# Altium footprint library abracon.PcbLib: 5 footprints
Each footprint in its own frame and in the unit in brackets; x right, y up, seen from the top. Pads: shape width x height; smd on the part's side, far side on the other; paste and mask are expansions set on the pad; w line width, h text height; cw(c..) or ccw(c..) is an arc to the next point about the centre after c.
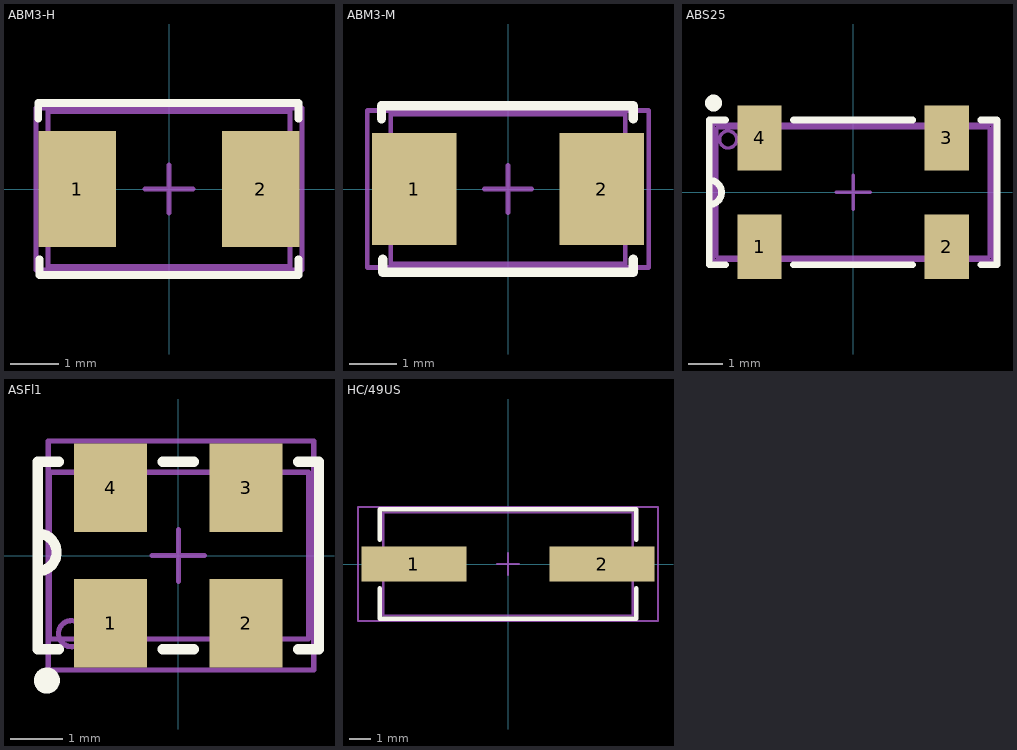
[diagram p0: the footprints below, top view; thin cyan lines are the x and y axes]

## ABM3-H [mm] "Miniature Ceramic SMD Crystal 5.0 X 3.2 X 1.3"
height 1.3
pads (2):
  rect 1.6x2.4 smd: 1(-1.9,0) 2(1.9,0)
Top Overlay:
  lines w0.16: -2.7,1.45 -2.7,1.775 2.675,1.775 2.675,1.45 ; -2.675,-1.45 -2.675,-1.775 2.675,-1.775 2.675,-1.45
Mechanical 13:
  lines w0.1: -0.5,0 0.5,0 ; 0,-0.5 0,0.5 ; -2.5,-1.6 -2.5,1.6 2.5,1.6 2.5,-1.6 -2.5,-1.6
Mechanical 15:
  lines w0.1: -2.75,-1.675 -2.75,1.675 2.75,1.675 2.75,-1.675 -2.75,-1.675
  text ".Designator" at -2.5,-0.1 h0.8
3D body: height 1.3, standoff 0, extent -2.5,-1.6 2.5,1.6

## ABM3-M [mm] "Miniature Ceramic SMD Crystal 5.0 X 3.2 X 1.3, Medium Density"
height 1.3
pads (2):
  rect 1.8x2.4 smd: 1(-2,0) 2(2,0)
Top Overlay:
  lines w0.2: -2.7,1.5 -2.7,1.775 2.675,1.775 2.675,1.5 ; -2.675,-1.5 -2.675,-1.775 2.675,-1.775 2.675,-1.5
Mechanical 13:
  lines w0.1: -0.5,0 0.5,0 ; 0,-0.5 0,0.5 ; -2.5,-1.6 -2.5,1.6 2.5,1.6 2.5,-1.6 -2.5,-1.6
Mechanical 15:
  lines w0.1: -3,-1.675 -3,1.675 3,1.675 3,-1.675 -3,-1.675
  text ".Designator" at -2.5,-0.1 h0.8
3D body: height 1.3, standoff 0, extent -2.5,-1.6 2.5,1.6

## ABS25 [mm] "Low Profile, Heat Resistant Plastic Package"
height 2.5
pads (4):
  rect 1.3x1.9 smd: 1(-2.75,-1.6) 2(2.75,-1.6) 3(2.75,1.6) 4(-2.75,1.6)
Top Overlay:
  circle w0.25: c-4.1,2.625 r0.125
  lines w0.2: -4.225,-0.361 ccw(c-4.225,0) -4.225,0.361 ; -3.75,-2.125 -4.225,-2.125 -4.225,2.125 -3.75,2.125 ; -1.75,-2.125 1.75,-2.125 ; -1.75,2.125 1.75,2.125 ; 3.75,-2.125 4.225,-2.125 4.225,2.125 3.75,2.125
Mechanical 13:
  lines w0.1: -0.5,0 0.5,0 ; 0,-0.5 0,0.5 ; -4,-1.9 4,-1.9 4,1.9 -4,1.9 -4,-1.9
Mechanical 15:
  circle w0.1: c-3.67,1.554 r0.251
  lines w0.1: -4.1,-2 4.1,-2 4.1,2 -4.1,2 -4.1,-2
  text ".Designator" at -2.6,-0.15 h0.8
3D body: height 2.55, standoff 0.02, extent -4,-1.9 4,1.9

## ASFl1 [mm] "Low Profile Oscillator"
height 1.3
pads (4):
  rect 1.4x1.7 smd: 1(-1.3,-1.3) 2(1.3,-1.3) 3(1.3,1.3) 4(-1.3,1.3)
Top Overlay:
  circle w0.25: c-2.525,-2.4 r0.125
  lines w0.2: -2.7,-0.3 ccw(c-2.7,0.061) -2.7,0.421 ; -2.3,-1.8 -2.7,-1.8 -2.7,1.8 -2.3,1.8 ; -0.3,-1.8 0.3,-1.8 ; -0.3,1.8 0.3,1.8 ; 2.3,-1.8 2.7,-1.8 2.7,1.8 2.3,1.8
Mechanical 13:
  lines w0.1: -0.5,0 0.5,0 ; 0,-0.5 0,0.5 ; -2.475,-1.6 -2.475,1.6 2.5,1.6 2.5,-1.6 -2.475,-1.6
Mechanical 15:
  circle w0.1: c-2.051,-1.5 r0.251
  lines w0.1: -2.5,-2.2 -2.5,2.2 2.6,2.2 2.6,-2.2 -2.5,-2.2
  text ".Designator" at -1.9,-0.1 h0.8
3D body: height 1.34, standoff 0.02, extent -2.5,-1.6 2.5,1.6

## HC/49US [mm] "SMD Low Profile Crystal"
height 4.2
pads (2):
  rect 4.8x1.6 smd: 1(-4.3,0) 2(4.3,0)
Top Overlay:
  lines w0.2: -5.85,-1.1 -5.85,-2.5 5.85,-2.5 5.85,-1.1 ; -5.85,1.1 -5.85,2.5 5.85,2.5 5.85,1.1
Mechanical 13:
  lines w0.1: -0.5,0 0.5,0 ; 0,-0.5 0,0.5 ; -5.7,-2.35 5.7,-2.35 5.7,2.35 -5.7,2.35 -5.7,-2.35
Mechanical 15:
  lines w0.1: -6.85,-2.6 6.85,-2.6 6.85,2.6 -6.85,2.6 -6.85,-2.6
  text ".Designator" at -2.5,-0.1 h0.8
3D body: height 4.24, standoff 0, extent -6.2,-2.415 6.2,2.415